# EAGLE library part TLE8250G (library hsk_2012)
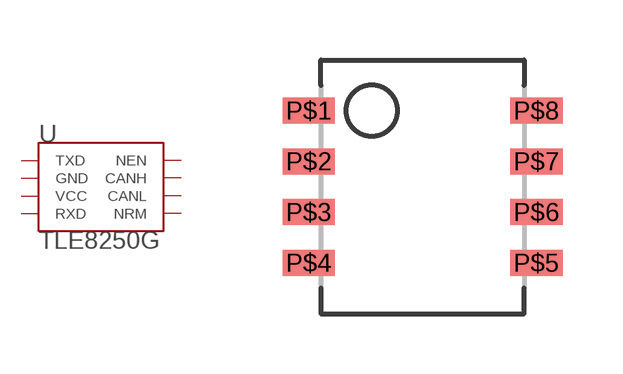
[diagram p19: symbol with the pads of PG-DSO-8-16; footprint PG-DSO-8-16]

Designator prefix -

## TLE8250G  [PG-DSO-8-16]
P$1  TXD  in
P$2  GND  sup
P$3  VCC  pwr
P$4  RXD  out
P$5  NRM  in
P$6  CANL
P$7  CANH
P$8  NEN  in

## Footprint PG-DSO-8-16 (pad centres in mm)
smd 1.31 x 0.65: P$1 -2.845,1.905; P$2 -2.845,0.635; P$3 -2.845,-0.635; P$4 -2.845,-1.905; P$5 2.845,-1.905; P$6 2.845,-0.635; P$7 2.845,0.635; P$8 2.845,1.905